# EAGLE library part OSRAM-LRTDC9TP (library led)
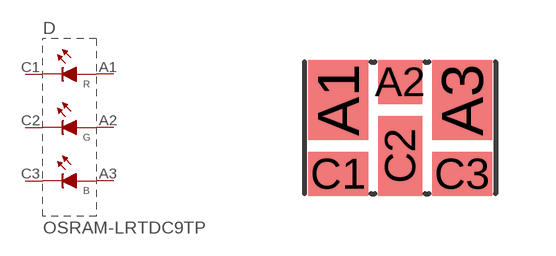
[diagram p11: symbol with the pads of OSRAM-LRTDC9TP; footprint OSRAM-LRTDC9TP]

Designator prefix D

## OSRAM-LRTDC9TP (DIGIKEY: 475-2856-1-ND)  [OSRAM-LRTDC9TP]
A1  AR  pas
A2  AG  pas
A3  AB  pas
C1  CR  pas
C2  CG  pas
C3  CB  pas

## Footprint OSRAM-LRTDC9TP (pad centres in mm)
smd 1.5 x 2: A1 -1.55,0.7; A3 1.55,0.7
smd 1.1 x 1.1: A2 0,1.15
smd 1.5 x 1.1: C1 -1.55,-1.15; C3 1.55,-1.15
smd 1.1 x 2: C2 0,-0.7